# Altium footprint library EReference-PCB.PcbLib: 17 footprints (part 1 of 2)
Each footprint in its own frame and in the unit in brackets; x right, y up, seen from the top. Pads: shape width x height; smd on the part's side, far side on the other; paste and mask are expansions set on the pad; w line width, h text height; cw(c..) or ccw(c..) is an arc to the next point about the centre after c.
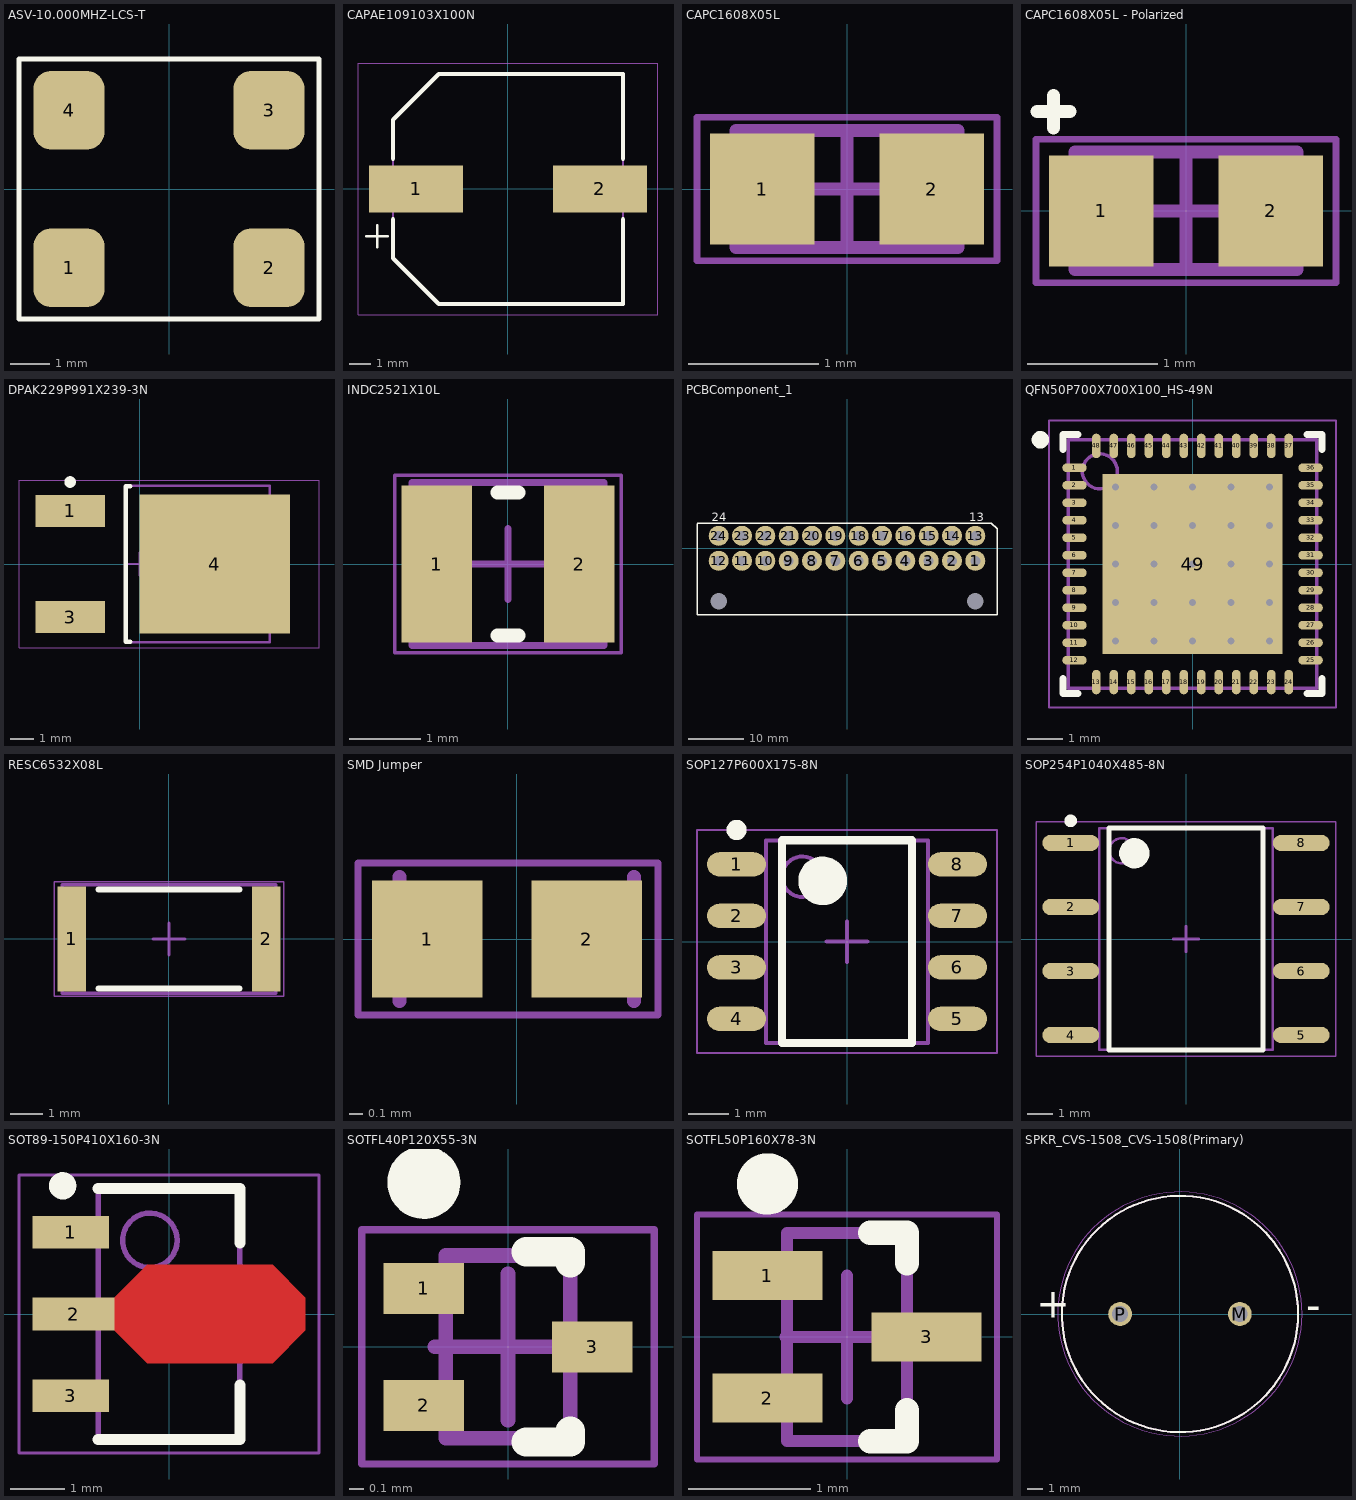
[diagram p0: the footprints below, top view; thin cyan lines are the x and y axes]

## ASV-10.000MHZ-LCS-T [mm] "Recomended Footprint for ASV-10.000MHZ-LCS-T Crystal"
height 1.8
pads (4):
  rrect50% 1.8x2 smd: 1(-2.54,-2) 2(2.54,-2) 3(2.54,2) 4(-2.54,2)
Top Overlay:
  lines w0.128: -3.81,-3.302 -3.81,3.302 3.81,3.302 3.81,-3.302 -3.81,-3.302
3D body "ASV.STEP": height 1.8, standoff 0, extent -3.5,-2.54 3.5,2.54

## CAPAE109103X100N [mm] "Aluminum Electrolytic Capacitor, Body 10.30x10.30x10.00mm, IPC Medium Density"
height 10
pads (2):
  rect 4.3x2.15 smd: 1(-4.2,0) 2(4.2,0)
Top Overlay:
  lines w0.1: -6.477,-2.159 -5.477,-2.159 ; -5.969,-2.659 -5.969,-1.659
  lines w0.2: -5.25,-1.375 -5.25,-3.163 -3.162,-5.25 5.25,-5.25 5.25,-1.375 ; -5.25,1.375 -5.25,3.162 -3.162,5.25 5.25,5.25 5.25,1.375
Mechanical 13:
  lines w0.1: -5.25,-3.163 -3.162,-5.25 5.25,-5.25 5.25,5.25 -3.162,5.25 -5.25,3.162 -5.25,-3.163
Mechanical 15:
  lines w0.05: -6.85,-5.75 -6.85,5.75 6.85,5.75 6.85,-5.75 -6.85,-5.75
3D body "CAPAE109103X100N.step": height 10, standoff 0, extent -5.45,-5.25 5.45,5.25

## CAPC1608X05L [mm] "Chip Capacitor, 2-Leads, Body 1.60x0.80mm, IPC High Density"
height 0.5
pads (2):
  rect 0.8x0.85 smd: 1(-0.65,0) 2(0.65,0)
Mechanical 13:
  lines w0.1: -0.85,-0.45 -0.85,0.45 0.85,0.45 0.85,-0.45 -0.85,-0.45
Mechanical 15:
  lines w0.05: -1.15,-0.55 -1.15,0.55 1.15,0.55 1.15,-0.55 -1.15,-0.55
  lines w0.1: -0.45,0 0.45,0 ; 0,-0.45 0,0.45
3D body "CAPC1608X05L.step": height 0.5, standoff 0, extent -0.85,-0.45 0.85,0.45

## CAPC1608X05L - Polarized [mm] "Chip Capacitor, 2-Leads, Body 1.60x0.80mm, IPC High Density"
height 0.5
pads (2):
  rect 0.8x0.85 smd: 1(-0.65,0) 2(0.65,0)
Top Overlay:
  lines w0.1: -1.143,0.762 -0.889,0.762 ; -1.016,0.635 -1.016,0.885
Mechanical 13:
  lines w0.1: -0.85,-0.45 0.85,-0.45 0.85,0.45 -0.85,0.45 -0.85,-0.45
Mechanical 15:
  lines w0.05: -1.15,-0.55 1.15,-0.55 1.15,0.55 -1.15,0.55 -1.15,-0.55
  lines w0.1: -0.45,0 0.45,0 ; 0,-0.45 0,0.45
3D body "CAPC1608X05L.step": height 0.5, standoff 0, extent -0.85,-0.45 0.85,0.45

## DPAK229P991X239-3N [mm] "D-PAK, 3-Pads, Body 6.21x6.73mm (max), IPC Medium Density"
height 2.39
pads (3):
  rect 3x1.4 smd: 1(-3,2.29) 3(-3,-2.29)
  rect 6.5x6 smd: 4(3.25,0)
Top Overlay:
  circle w0.25: c-3,3.54 r0.125
  lines w0.2: -0.4,-3.35 -0.6,-3.35 -0.6,3.35 -0.4,3.35
Mechanical 13:
  lines w0.1: -0.6,-3.375 5.62,-3.375 5.62,3.375 -0.6,3.375 -0.6,-3.375
Mechanical 15:
  lines w0.05: -5.207,-3.625 7.747,-3.625 7.747,3.625 -5.207,3.625 -5.207,-3.625
  lines w0.1: -0.5,0 0.5,0 ; 0,-0.5 0,0.5
3D body "DPAK229P991X239-3N.step": height 2.39, standoff 0, extent -2.44,-3.375 7.465,3.375

## INDC2521X10L [mm] "Chip Inductor, 2-Leads, Body 2.50x2.10mm, IPC High Density"
height 1
pads (2):
  rect 0.99x2.22 smd: 1(-1.005,0) 2(1.005,0)
Top Overlay:
  lines w0.2: -0.15,-1.01 0.15,-1.01 ; -0.15,1.01 0.15,1.01
Mechanical 13:
  lines w0.1: -1.35,-1.15 -1.35,1.15 1.35,1.15 1.35,-1.15 -1.35,-1.15
Mechanical 15:
  lines w0.05: -1.6,-1.25 -1.6,1.25 1.6,1.25 1.6,-1.25 -1.6,-1.25
  lines w0.1: -0.5,0 0.5,0 ; 0,-0.5 0,0.5
3D body "INDC2521X10L.step": height 1, standoff 0, extent -1.35,-1.15 1.35,1.15

## PCBComponent_1 [mm]
pads (26):
  round 3.6 hole 1.8: 1(23.1,-2.25) 2(18.9,-2.25) 3(14.7,-2.25) 4(10.5,-2.25) 5(6.3,-2.25) 6(2.1,-2.25) 7(-2.1,-2.25) 8(-6.3,-2.25) 9(-10.5,-2.25) 10(-14.7,-2.25) 11(-18.9,-2.25) 12(-23.1,-2.25) 13(23.1,2.25) 14(18.9,2.25) 15(14.7,2.25) 16(10.5,2.25) 17(6.3,2.25) 18(2.1,2.25) 19(-2.1,2.25) 20(-6.3,2.25) 21(-10.5,2.25) 22(-14.7,2.25) 23(-18.9,2.25) 24(-23.1,2.25)
  round 1.524 hole 3: ""(-23.1,-9.55) ""(23.1,-9.55)
Top Overlay:
  lines w0.254: -27,4.445 -27,-12 27,-12 27,3.5 26,4.5 -27,4.5
  text "13" at 21.971,4.826 h1.52
  text "24" at -24.384,4.826 h1.52
3D body: height 0.25, standoff 0, extent 2.1,8.4 2.1,8.4
3D body "039300240.stp": height 11.4, standoff -3.6, extent -26,-16.8 26,3.135

## QFN50P700X700X100_HS-49N [mm] "QFN, 48-Leads, Body 7.00x7.00mm, Pitch 0.50mm, Thermal Pad 5.15x5.15mm, IPC Medium Density"
height 1
pads (49):
  oval 0.7x0.25 smd: 1(-3.375,2.75) 2(-3.375,2.25) 3(-3.375,1.75) 4(-3.375,1.25) 5(-3.375,0.75) 6(-3.375,0.25) 7(-3.375,-0.25) 8(-3.375,-0.75) 9(-3.375,-1.25) 10(-3.375,-1.75) 11(-3.375,-2.25) 12(-3.375,-2.75) 25(3.375,-2.75) 26(3.375,-2.25) 27(3.375,-1.75) 28(3.375,-1.25) 29(3.375,-0.75) 30(3.375,-0.25) 31(3.375,0.25) 32(3.375,0.75) 33(3.375,1.25) 34(3.375,1.75) 35(3.375,2.25) 36(3.375,2.75)
  oval 0.25x0.7 smd: 13(-2.75,-3.375) 14(-2.25,-3.375) 15(-1.75,-3.375) 16(-1.25,-3.375) 17(-0.75,-3.375) 18(-0.25,-3.375) 19(0.25,-3.375) 20(0.75,-3.375) 21(1.25,-3.375) 22(1.75,-3.375) 23(2.25,-3.375) 24(2.75,-3.375) 37(2.75,3.375) 38(2.25,3.375) 39(1.75,3.375) 40(1.25,3.375) 41(0.75,3.375) 42(0.25,3.375) 43(-0.25,3.375) 44(-0.75,3.375) 45(-1.25,3.375) 46(-1.75,3.375) 47(-2.25,3.375) 48(-2.75,3.375)
  rect 5.15x5.15 smd: 49(0,0)
via -2.2,2.2 diameter 0.5 hole 0.2
via -1.1,2.2 diameter 0.5 hole 0.2
via 0,2.2 diameter 0.5 hole 0.2
via 1.1,2.2 diameter 0.5 hole 0.2
via 2.2,2.2 diameter 0.5 hole 0.2
via -2.2,1.1 diameter 0.5 hole 0.2
via -1.1,1.1 diameter 0.5 hole 0.2
via 0,1.1 diameter 0.5 hole 0.2
via 1.1,1.1 diameter 0.5 hole 0.2
via 2.2,1.1 diameter 0.5 hole 0.2
via -2.2,0 diameter 0.5 hole 0.2
via -1.1,0 diameter 0.5 hole 0.2
via 0,0 diameter 0.5 hole 0.2
via 1.1,0 diameter 0.5 hole 0.2
via 2.2,0 diameter 0.5 hole 0.2
via -2.2,-1.1 diameter 0.5 hole 0.2
via -1.1,-1.1 diameter 0.5 hole 0.2
via 0,-1.1 diameter 0.5 hole 0.2
via 1.1,-1.1 diameter 0.5 hole 0.2
via 2.2,-1.1 diameter 0.5 hole 0.2
via -2.2,-2.2 diameter 0.5 hole 0.2
via -1.1,-2.2 diameter 0.5 hole 0.2
via 0,-2.2 diameter 0.5 hole 0.2
via 1.1,-2.2 diameter 0.5 hole 0.2
via 2.2,-2.2 diameter 0.5 hole 0.2
Top Overlay:
  circle w0.25: c-4.35,3.55 r0.125
  lines w0.2: -3.7,-3.275 -3.7,-3.7 -3.275,-3.7 ; -3.7,3.275 -3.7,3.7 -3.275,3.7 ; 3.275,-3.7 3.7,-3.7 3.7,-3.275 ; 3.275,3.7 3.7,3.7 3.7,3.275
Mechanical 13:
  circle w0.1: c-2.65,2.65 r0.5
  lines w0.1: -3.55,-3.55 -3.55,3.55 3.55,3.55 3.55,-3.55 -3.55,-3.55
Mechanical 15:
  lines w0.05: -4.1,-4.1 -4.1,4.1 4.1,4.1 4.1,-4.1 -4.1,-4.1
  lines w0.1: -0.5,0 0.5,0 ; 0,-0.5 0,0.5
3D body "QFN50P700X700X100_HS-49N.step": height 1, standoff 0, extent -3.551,-3.551 3.551,3.551

## RESC6532X08L [mm] "Chip Resistor, 2-Leads, Body 6.50x3.20mm, IPC High Density"
height 0.8
pads (2):
  rect 0.9x3.3 smd: 1(-3.05,0) 2(3.05,0)
Top Overlay:
  lines w0.2: -2.2,-1.55 2.2,-1.55 ; -2.2,1.55 2.2,1.55
Mechanical 13:
  lines w0.1: -3.35,-1.7 -3.35,1.7 3.35,1.7 3.35,-1.7 -3.35,-1.7
Mechanical 15:
  lines w0.05: -3.6,-1.8 -3.6,1.8 3.6,1.8 3.6,-1.8 -3.6,-1.8
  lines w0.1: -0.5,0 0.5,0 ; 0,-0.5 0,0.5
3D body "RESC6532X08L.step": height 0.8, standoff 0, extent -3.35,-1.7 3.35,1.7

## SMD Jumper [mm] "To be used only as a jumper"
pads (2):
  rect 0.8x0.85 smd: 1(-0.65,0) 2(0.508,0)
Mechanical 13:
  lines w0.1: -0.85,-0.45 -0.85,0.45 ; 0.85,-0.45 0.85,0.45
Mechanical 15:
  lines w0.05: -1.15,-0.55 1.023,-0.55 1.023,-0.275 1.023,0.275 1.023,0.55 -1.15,0.55 -1.15,-0.55

## SOP127P600X175-8N [mm] "SOP, 8-Leads, Body 4.90x3.90mm, Pitch 1.27mm, IPC Medium Density"
height 1.75
pads (8):
  oval 1.45x0.6 smd: 1(-2.725,1.905) 2(-2.725,0.635) 3(-2.725,-0.635) 4(-2.725,-1.905) 5(2.725,-1.905) 6(2.725,-0.635) 7(2.725,0.635) 8(2.725,1.905)
Top Overlay:
  circle w0.6: c-0.6,1.5 r0.3
  circle w0.25: c-2.725,2.755 r0.125
  lines w0.2: -1.6,-2.5 1.6,-2.5 1.6,2.5 -1.6,2.5 -1.6,-2.5
Mechanical 13:
  circle w0.1: c-1.1,1.6 r0.5
  lines w0.1: -2,-2.5 2,-2.5 2,2.5 -2,2.5 -2,-2.5
Mechanical 15:
  lines w0.05: -3.7,-2.75 3.7,-2.75 3.7,2.75 -3.7,2.75 -3.7,-2.75
  lines w0.1: -0.5,0 0.5,0 ; 0,-0.5 0,0.5
3D body "SOP127P600X175-8N.step": height 1.75, standoff 0, extent -3,-2.5 3,2.5

## SOP254P1040X485-8N [mm] "SOP, 8-Leads, Body 9.15x6.62mm, Pitch 2.54mm, IPC Medium Density"
height 4.85
pads (8):
  oval 2.25x0.65 smd: 1(-4.575,3.81) 2(-4.575,1.27) 3(-4.575,-1.27) 4(-4.575,-3.81) 5(4.575,-3.81) 6(4.575,-1.27) 7(4.575,1.27) 8(4.575,3.81)
Top Overlay:
  circle w0.6: c-2.05,3.4 r0.3
  circle w0.25: c-4.575,4.685 r0.125
  lines w0.2: -3.05,-4.4 3.05,-4.4 3.05,4.4 -3.05,4.4 -3.05,-4.4
Mechanical 13:
  circle w0.1: c-2.55,3.5 r0.5
  lines w0.1: -3.45,-4.4 3.45,-4.4 3.45,4.4 -3.45,4.4 -3.45,-4.4
Mechanical 15:
  lines w0.05: -5.95,-4.65 5.95,-4.65 5.95,4.65 -5.95,4.65 -5.95,-4.65
  lines w0.1: -0.5,0 0.5,0 ; 0,-0.5 0,0.5
3D body "SOP254P1040X485-8N.step": height 4.85, standoff 0, extent -5.2,-4.4 5.2,4.4

## SOT89-150P410X160-3N [mm] "SOT89, 3-Leads, Body 4.50x2.50mm, Pitch 1.50mm, Lead Span 4.1mm, IPC Medium Density"
height 1.6
pads (3):
  rect 1.4x0.6 smd: 1(-1.8,1.5) 3(-1.8,-1.5)
  rect 1.5x0.6 smd: 2(-1.75,0)
Top Layer:
  region: -1,0.3 -0.4,0.9 1.9,0.9 2.5,0.3 2.5,-0.3 1.9,-0.9 -0.4,-0.9 -1,-0.3
Top Overlay:
  circle w0.25: c-1.95,2.35 r0.125
  lines w0.2: -1.3,-2.3 1.3,-2.3 1.3,-1.3 ; -1.3,2.3 1.3,2.3 1.3,1.3
Mechanical 13:
  circle w0.1: c-0.35,1.35 r0.5
  lines w0.1: -1.3,-2.3 1.3,-2.3 1.3,2.3 -1.3,2.3 -1.3,-2.3
Mechanical 15:
  lines w0.05: -2.75,-2.55 2.75,-2.55 2.75,2.55 -2.75,2.55 -2.75,-2.55
  lines w0.1: -0.5,0 0.5,0 ; 0,-0.5 0,0.5
3D body "SOT89-150P410X160-3N.step": height 1.6, standoff 0, extent -2.2,-2.297 2.1,2.297

## SOTFL40P120X55-3N [mm] "SOTFL, 3-Leads, Body 1.20x1.20mm, Pitch 0.40mm, IPC Medium Density"
height 0.55
pads (3):
  rect 0.55x0.35 smd: 1(-0.575,0.4) 2(-0.575,-0.4) 3(0.575,0)
Top Overlay:
  circle w0.25: c-0.575,1.125 r0.125
  lines w0.2: 0.125,-0.65 0.425,-0.65 0.425,-0.575 ; 0.125,0.65 0.425,0.65 0.425,0.575
Mechanical 13:
  lines w0.1: -0.425,-0.625 0.425,-0.625 0.425,0.625 -0.425,0.625 -0.425,-0.625
Mechanical 15:
  lines w0.05: -1,-0.8 1,-0.8 1,0.8 -1,0.8 -1,-0.8
  lines w0.1: -0.5,0 0.5,0 ; 0,-0.5 0,0.5
3D body "SOTFL40P120X55-3N.step": height 0.55, standoff 0, extent -0.6,-0.623 0.6,0.623

## SOTFL50P160X78-3N [mm] "SOTFL, 3-Leads, Body 1.60x1.60mm, Pitch 0.50mm, IPC Medium Density"
height 0.78
pads (3):
  rect 0.9x0.4 smd: 1(-0.65,0.5) 2(-0.65,-0.5) 3(0.65,0)
Top Overlay:
  circle w0.25: c-0.65,1.25 r0.125
  lines w0.2: 0.19,-0.85 0.49,-0.85 0.49,-0.6 ; 0.19,0.85 0.49,0.85 0.49,0.6
Assembly Top:
  lines w0.1: -0.49,-0.85 0.49,-0.85 0.49,0.85 -0.49,0.85 -0.49,-0.85
Courtyard Top:
  lines w0.05: -1.225,-1 1.225,-1 1.225,1 -1.225,1 -1.225,-1
  lines w0.1: -0.5,0 0.5,0 ; 0,-0.5 0,0.5
3D body "SOTFL50P160X78-3N.step": height 0.78, standoff 0, extent -0.8,-0.848 0.8,0.848

## SPKR_CVS-1508_CVS-1508(Primary) [mm]
pads (2):
  round 1.508 hole 1: M(3.8,0) P(-3.8,0)
Top Overlay:
  circle w0.127: c0,0 r7.5
  text "+" at -9.137,-0.25 h1.88
  text "-" at 8.031,-0.377 h1.88
Mechanical 4:
  circle w0.127: c0,0 r7.5
  circle w0.127: c0,0 r7.5
Mechanical 16:
  circle w0.05: c0,0 r7.75